# EAGLE library part FPC40 (library zephod-components)
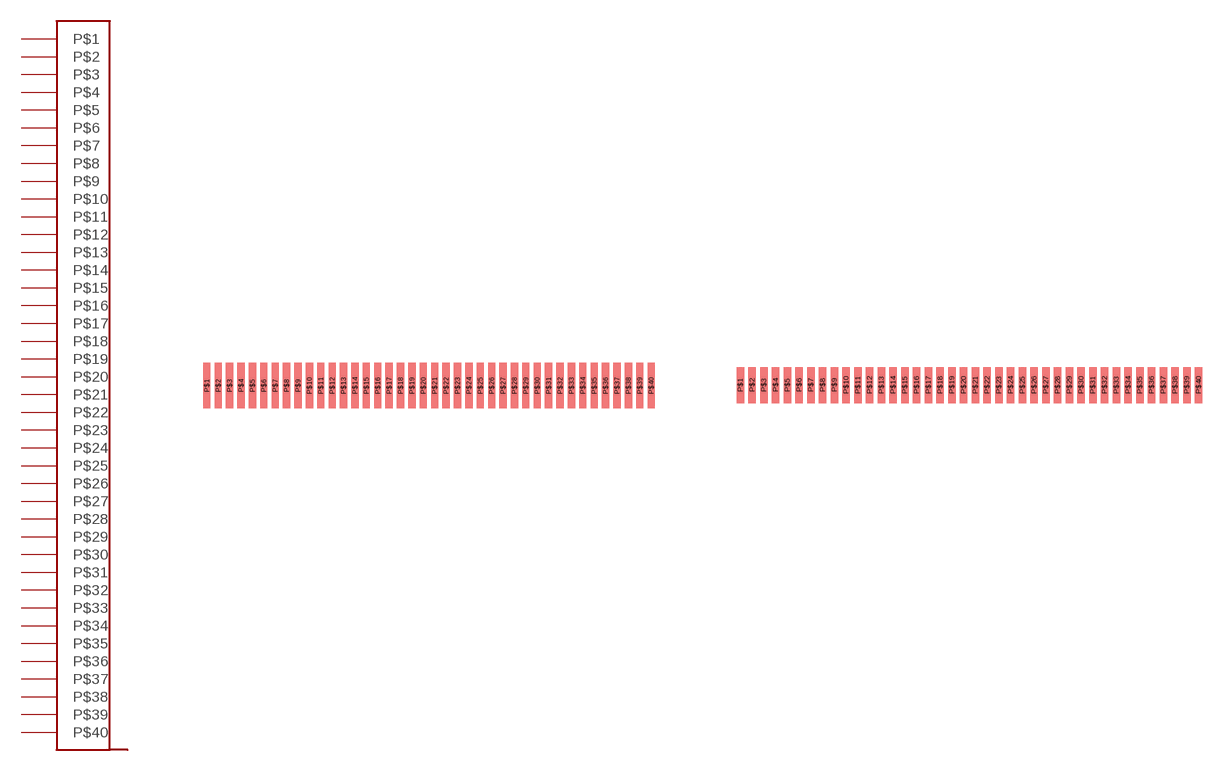
[diagram p9: symbol with the pads of FPC40-0.5; footprints FPC40-0.5, FPC40-0.65]

Designator prefix -

## FPC40  [FPC40-0.5]
P$1  P$1
P$2  P$2
P$3  P$3
P$4  P$4
P$5  P$5
P$6  P$6
P$7  P$7
P$8  P$8
P$9  P$9
P$10  P$10
P$11  P$11
P$12  P$12
P$13  P$13
P$14  P$14
P$15  P$15
P$16  P$16
P$17  P$17
P$18  P$18
P$19  P$19
P$20  P$20
P$21  P$21
P$22  P$22
P$23  P$23
P$24  P$24
P$25  P$25
P$26  P$26
P$27  P$27
P$28  P$28
P$29  P$29
P$30  P$30
P$31  P$31
P$32  P$32
P$33  P$33
P$34  P$34
P$35  P$35
P$36  P$36
P$37  P$37
P$38  P$38
P$39  P$39
P$40  P$40

## FPC400.65  [FPC40-0.65]
Pads as for FPC40-0.5

## FPC400.7  [FPC40-0.70]
Pads as for FPC40-0.5

## FPC401.27  [FPC40-1.27]
Pads as for FPC40-0.5

## Footprint FPC40-0.5 (pad centres in mm)
smd 0.32 x 2: P$1 0,0; P$2 0.5,0; P$3 1,0; P$4 1.5,0; P$5 2,0; P$6 2.5,0; P$7 3,0; P$8 3.5,0; P$9 4,0; P$10 4.5,0; P$11 5,0; P$12 5.5,0; P$13 6,0; P$14 6.5,0; P$15 7,0; P$16 7.5,0; P$17 8,0; P$18 8.5,0; P$19 9,0; P$20 9.5,0; P$21 10,0; P$22 10.5,0; P$23 11,0; P$24 11.5,0; P$25 12,0; P$26 12.5,0; P$27 13,0; P$28 13.5,0; P$29 14,0; P$30 14.5,0; P$31 15,0; P$32 15.5,0; P$33 16,0; P$34 16.5,0; P$35 17,0; P$36 17.5,0; P$37 18,0; P$38 18.5,0; P$39 19,0; P$40 19.5,0

## Footprint FPC40-0.65 (pad centres in mm)
smd 0.42 x 2: P$1 0,0; P$2 0.65,0; P$3 1.3,0; P$4 1.95,0; P$5 2.6,0; P$6 3.25,0; P$7 3.9,0; P$8 4.55,0; P$9 5.2,0; P$10 5.85,0; P$11 6.5,0; P$12 7.15,0; P$13 7.8,0; P$14 8.45,0; P$15 9.1,0; P$16 9.75,0; P$17 10.4,0; P$18 11.05,0; P$19 11.7,0; P$20 12.35,0; P$21 13,0; P$22 13.65,0; P$23 14.3,0; P$24 14.95,0; P$25 15.6,0; P$26 16.25,0; P$27 16.9,0; P$28 17.55,0; P$29 18.2,0; P$30 18.85,0; P$31 19.5,0; P$32 20.15,0; P$33 20.8,0; P$34 21.45,0; P$35 22.1,0; P$36 22.75,0; P$37 23.4,0; P$38 24.05,0; P$39 24.7,0; P$40 25.35,0

## Footprint FPC40-0.70 (pad centres in mm)
smd 0.42 x 2: P$1 0,0; P$2 0.7,0; P$3 1.4,0; P$4 2.1,0; P$5 2.8,0; P$6 3.5,0; P$7 4.2,0; P$8 4.9,0; P$9 5.6,0; P$10 6.3,0; P$11 7,0; P$12 7.7,0; P$13 8.4,0; P$14 9.1,0; P$15 9.8,0; P$16 10.5,0; P$17 11.2,0; P$18 11.9,0; P$19 12.6,0; P$20 13.3,0; P$21 14,0; P$22 14.7,0; P$23 15.4,0; P$24 16.1,0; P$25 16.8,0; P$26 17.5,0; P$27 18.2,0; P$28 18.9,0; P$29 19.6,0; P$30 20.3,0; P$31 21,0; P$32 21.7,0; P$33 22.4,0; P$34 23.1,0; P$35 23.8,0; P$36 24.5,0; P$37 25.2,0; P$38 25.9,0; P$39 26.6,0; P$40 27.3,0

## Footprint FPC40-1.27 (pad centres in mm)
smd 0.762 x 2: P$1 0,0; P$2 1.27,0; P$3 2.54,0; P$4 3.81,0; P$5 5.08,0; P$6 6.35,0; P$7 7.62,0; P$8 8.89,0; P$9 10.16,0; P$10 11.43,0; P$11 12.7,0; P$12 13.97,0; P$13 15.24,0; P$14 16.51,0; P$15 17.78,0; P$16 19.05,0; P$17 20.32,0; P$18 21.59,0; P$19 22.86,0; P$20 24.13,0; P$21 25.4,0; P$22 26.67,0; P$23 27.94,0; P$24 29.21,0; P$25 30.48,0; P$26 31.75,0; P$27 33.02,0; P$28 34.29,0; P$29 35.56,0; P$30 36.83,0; P$31 38.1,0; P$32 39.37,0; P$33 40.64,0; P$34 41.91,0; P$35 43.18,0; P$36 44.45,0; P$37 45.72,0; P$38 46.99,0; P$39 48.26,0; P$40 49.53,0